# EAGLE library part MCP4161-103E/P (library CASE-RCL)
MICROSHIP MCP4161-103E/P Description: MCP4161-103E/P SPI Potentiometer with non volatile memory from MICROSHIP. DIP version. Links: Datasheet <http://www.farnell.com/datasheets/630445.pdf?_ga=2.38575975.579945346.1537035231-1112771566.1525371275&_gac=1.58330712.1534272045.CjwKCAjw-8nbBRBnEiwAqWt1zXIv27p0JJOXdsLmacbpA7WUg7D8rpNEpnQqv-3MCFOzZ11K606C1RoCpGYQAvD_BwE> MCP4161-103E/P <https://se.farnell.com/microchip/mcp4161-103e-p/ic-dig-pot-10kohm-257-taps-pdip/dp/1840807?st=spi%20potentiometer>
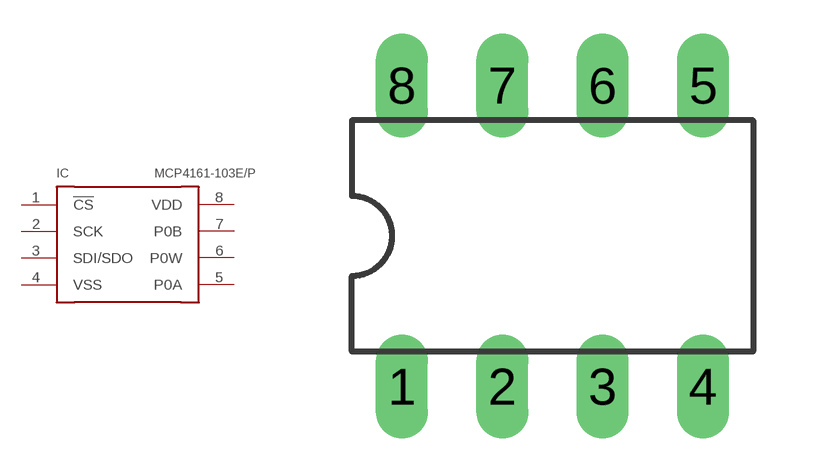
[diagram p0: symbol with the pads of DIL08; footprint DIL08]

Designator prefix IC

## MCP4161-103E/P  [DIL08]
1  !CS
2  SCK
3  SDI/SDO
4  VSS  pwr
5  P0A
6  P0W
7  P0B
8  VDD  pwr

## Footprint DIL08 (pad centres in mm)
Dual In Line Package
drill 0.813 long: 1 -3.81,-3.81; 2 -1.27,-3.81; 3 1.27,-3.81; 4 3.81,-3.81; 5 3.81,3.81; 6 1.27,3.81; 7 -1.27,3.81; 8 -3.81,3.81